# Altium footprint library PcbLibBrian.PcbLib: 5 footprints
Each footprint in its own frame and in the unit in brackets; x right, y up, seen from the top. Pads: shape width x height; smd on the part's side, far side on the other; paste and mask are expansions set on the pad; w line width, h text height; cw(c..) or ccw(c..) is an arc to the next point about the centre after c.
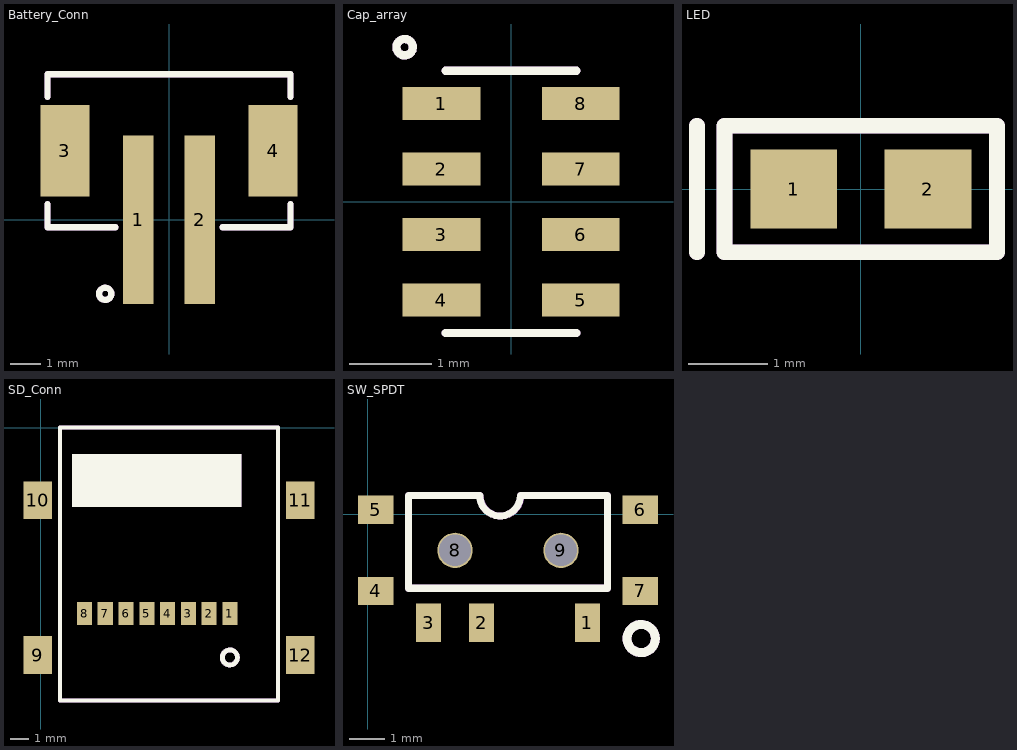
[diagram p0: the footprints below, top view; thin cyan lines are the x and y axes]

## Battery_Conn [mm]
pads (4):
  rect 1x5.5 smd: 1(-1,0) 2(1,0)
  rect 1.6x3 smd: 3(-3.4,2.25) 4(3.4,2.25)
Top Overlay:
  circle w0.2: c-2.083,-2.424 r0.2
  lines w0.2: -3.975,0.5 -3.975,-0.25 -1.75,-0.25 ; -3.975,4 -3.975,4.75 3.975,4.75 3.975,4 ; 1.75,-0.25 3.975,-0.25 3.975,0.5
Mechanical 29:
  circle w0.2: c-2.083,-2.424 r0.2
  lines w0.2: -3.975,0.5 -3.975,-0.25 -1.75,-0.25 ; -3.975,4 -3.975,4.75 3.975,4.75 3.975,4 ; 1.75,-0.25 3.975,-0.25 3.975,0.5
  text "'.Designator'" at -2.9,1.5 h1
3D body "B2B-PH-SM4-TB(LF)(SN)--3DModel-STEP-56544.STEP": height 6.61, standoff -0.14, extent -3.975,-2.25 3.975,4.75

## Cap_array [mm]
pads (8):
  rect 0.95x0.4 smd: 1(-0.85,1.2) 3(-0.85,-0.4) 4(-0.85,-1.2) 5(0.85,-1.2) 6(0.85,-0.4) 7(0.85,0.4) 8(0.85,1.2)
  rect 0.95x0.4 smd mask+0.102: 2(-0.85,0.4)
Top Overlay:
  lines w0.1: -1.2,1.9 cw(c-1.299,1.888) -1.2,1.902 ; -0.8,-1.6 0.8,-1.6 ; -0.8,1.6 0.8,1.6
Mechanical 30:
  lines w0.1: -1.2,1.9 cw(c-1.299,1.888) -1.2,1.902 ; -0.8,-1.6 0.8,-1.6 ; -0.8,1.6 0.8,1.6
  text "'.Designator'" at -1,-0.2 h0.5

## LED [mm]
pads (2):
  rect 1.1x1 smd: 1(-0.85,0) 2(0.85,0)
Top Overlay:
  lines w0.2: -2.075,-0.8 -2.075,0.8 ; -1.725,-0.8 -1.725,0.8 1.725,0.8 1.725,-0.8 -1.725,-0.8
Mechanical 29:
  lines w0.2: -2.075,-0.8 -2.075,0.8 ; -1.725,-0.8 -1.725,0.8 1.725,0.8 1.725,-0.8 -1.725,-0.8
  text "'.Designator'" at -1.2,-0.2 h0.4
3D body "LTST-C191TBKT-5A--3DModel-STEP-56544.STEP": height 0.66, standoff 0.01, extent -0.8,-0.4 0.8,0.4

## SD_Conn [mm]
pads (12):
  rect 0.8x1.2 smd: 1(10.025,-9.85) 2(8.925,-9.85) 3(7.825,-9.85) 4(6.725,-9.85) 5(5.625,-9.85) 6(4.525,-9.85) 7(3.425,-9.85) 8(2.325,-9.85)
  rect 1.5x2 smd: 9(-0.145,-12.05) 10(-0.145,-3.85) 11(13.745,-3.85) 12(13.745,-12.05)
Top Overlay:
  circle w0.254: c10.025,-12.175 r0.4
  rectangle: 1.65,-4.2 10.65,-1.4
  lines w0.2: 1.025,-14.45 12.575,-14.45 12.575,0 1.025,0 1.025,-14.45
Mechanical 30:
  circle w0.254: c10.025,-12.175 r0.4
  rectangle: 1.65,-4.2 10.65,-1.4
  lines w0.2: 1.025,-14.45 1.25,-14.45 12.35,-14.45 12.575,-14.45 12.575,0 1.025,0 1.025,-14.45
  text "'.Designator'" at 2.6,-7.4 h1.52
3D body: height 0.25, standoff 0, extent 7,-6.8 7,-6.8

## SW_SPDT [mm]
pads (9):
  rect 0.7x1.1 smd: 1(6.225,-3.075) 2(3.225,-3.075) 3(1.725,-3.075)
  rect 1x0.8 smd: 4(0.225,-2.175) 5(0.225,0.125) 6(7.725,0.125) 7(7.725,-2.175)
  round 1 hole 0.9 unplated: 8(2.475,-1.025) 9(5.475,-1.025)
Top Overlay:
  circle w0.254: c7.75,-3.525 r0.4
  lines w0.2: 1.15,-2.1 1.15,0.525 3.175,0.525 ccw(c3.75,0.525) 4.325,0.525 6.8,0.525 6.8,-2.1 1.15,-2.1
Mechanical 29:
  circle w0.254: c7.75,-3.525 r0.4
  lines w0.2: 1.15,-2.1 6.8,-2.1 6.8,0.525 4.335,0.525 cw(c3.76,0.525) 3.185,0.525 1.15,0.525 1.15,-2.1
  text "'.Designator'" at 1.7,-1.3 h1
3D body "450404015514_Download_STP_450404015514_rev1.stp": height 1.4, standoff -0.5, extent 0.15,-3.275 7.85,1.855